# EAGLE library part BQ25180YBGR_BQ25180YBGR (library InkTime_v5)
Charger IC Lithium Ion/Polymer, Lithium Iron Phosphate 8-DSBGA (1.6x1.1) Source: Datasheet <https://www.ti.com/lit/ds/symlink/bq25180.pdf?ts=1650264094470&ref_url=https%3A%2F%2Fwww.ti.com%2Fproduct%2FBQ25180>
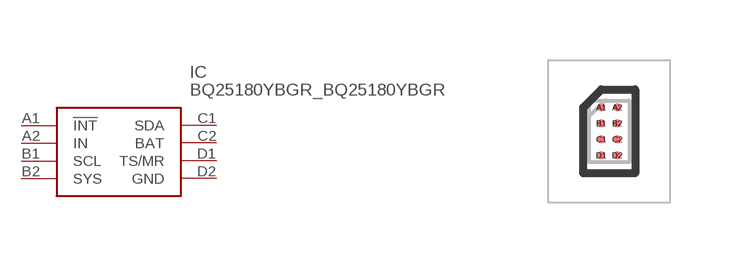
[diagram p7: symbol with the pads of BQ25180YBGR_BGA8C40P2X4_100X155X50; footprint BQ25180YBGR_BGA8C40P2X4_100X155X50]

Designator prefix IC

## BQ25180YBGR_BQ25180YBGR  [BQ25180YBGR_BGA8C40P2X4_100X155X50]
A1  !INT
A2  IN
B1  SCL
B2  SYS
C1  SDA
C2  BAT
D1  TS/MR
D2  GND

## Footprint BQ25180YBGR_BGA8C40P2X4_100X155X50 (pad centres in mm)
YBG0008
smd 0.2 x 0.2: A1 -0.2,0.6; A2 0.2,0.6; B1 -0.2,0.2; B2 0.2,0.2; C1 -0.2,-0.2; C2 0.2,-0.2; D1 -0.2,-0.6; D2 0.2,-0.6